# Altium schematic symbol library FFC2B35-06-G_REVA2.SchLib: 1 symbol
Pins are listed as number, name and electrical type; pins without a type are passive.

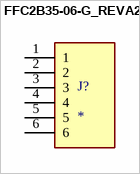
[diagram p0: symbol FFC2B35-06-G_REVA2]

## FFC2B35-06-G_REVA2
designator J?
0.5mm Side entry Flat Flexible Cable Connector; MF: Global Connector Technology; MP: FFC2B35-06-G; SnapEDA_Link: https://www.snapeda.com/parts/FFC2B35-06-G/Global+Connector+Technology/view-part/?ref=snap; Price: None; Check_prices: https://www.snapeda.com/parts/FFC2B35-06-G/Global+Connector+Technology/view-part/?ref=eda; Availability: In Stock; Value: *; Package: None; Purchase-URL: https://pricing.snapeda.com/search/part/FFC2B35-06-G/?ref=eda
footprint GCT_FFC2B35-06-G_REVA2
pins: 1, 2, 3, 4, 5, 6